# EAGLE library part RX-8025SA (library ICs)
Real Time Clock (RTC) IC Clock/Calendar I²C, 2-Wire Serial 14-SOIC (0.209", 5.30mm Width)
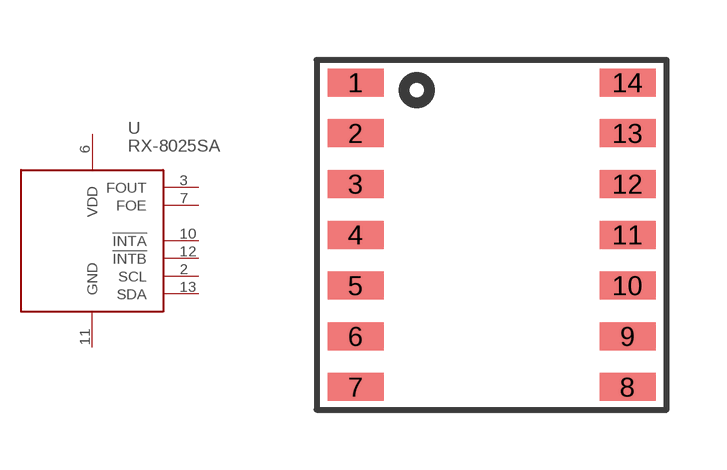
[diagram p239: symbol with the pads of SOP14; footprint SOP14]

Designator prefix U

## RX-8025SA (DIGIKEY: SER3650CT-ND; HEIGHT: 3; PRICE_PER: 2.99; VALUE: RX8025)  [SOP14]
2  SCL
3  FOUT
6  VDD
7  FOE
10  !INTA
11  GND
12  !INTB
13  SDA

## Footprint SOP14 (pad centres in mm)
smd 1.4 x 0.7: 1 -3.4,3.81; 2 -3.4,2.54; 3 -3.4,1.27; 4 -3.4,0; 5 -3.4,-1.27; 6 -3.4,-2.54; 7 -3.4,-3.81; 8 3.4,-3.81; 9 3.4,-2.54; 10 3.4,-1.27; 11 3.4,0; 12 3.4,1.27; 13 3.4,2.54; 14 3.4,3.81